# EAGLE library part µPD71055 (library NEC-µPD71055)
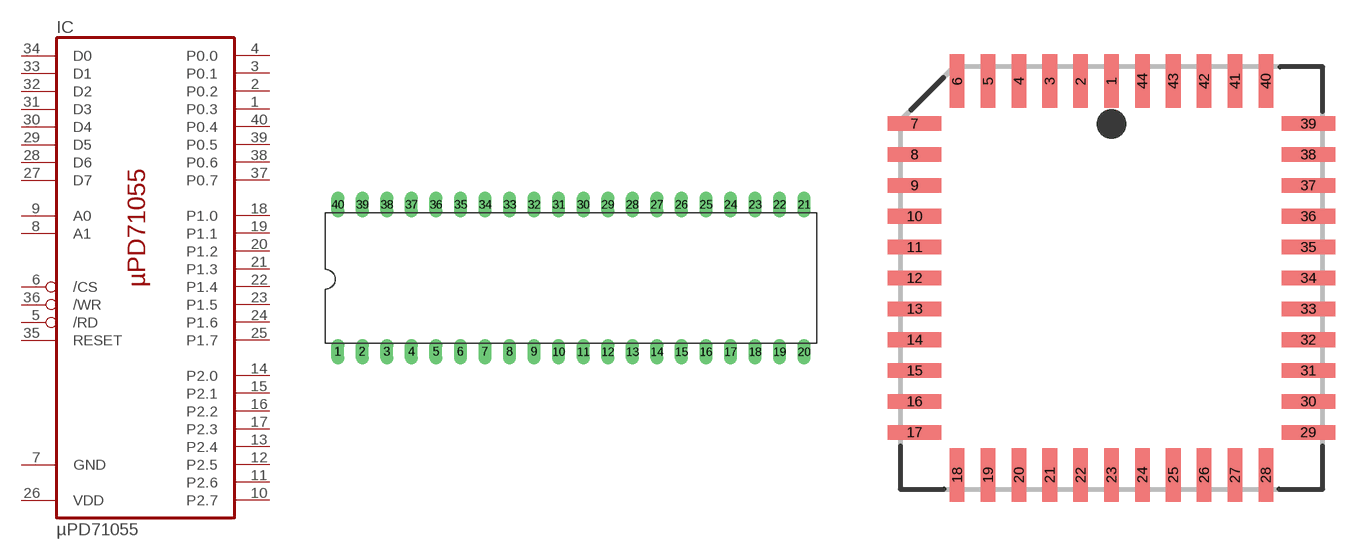
[diagram p0: symbol with the pads of DIL40; footprints DIL40, PLCC44]

Designator prefix IC

## µPD71055C  [DIL40]
1  P0.3
2  P0.2
3  P0.1
4  P0.0
5  /RD  in
6  /CS  in
7  GND  pwr
8  A1  in
9  A0  in
10  P2.7
11  P2.6
12  P2.5
13  P2.4
14  P2.0
15  P2.1
16  P2.2
17  P2.3
18  P1.0
19  P1.1
20  P1.2
21  P1.3
22  P1.4
23  P1.5
24  P1.6
25  P1.7
26  VDD  pwr
27  D7
28  D6
29  D5
30  D4
31  D3
32  D2
33  D1
34  D0
35  RESET  in
36  /WR  in
37  P0.7
38  P0.6
39  P0.5
40  P0.4

## µPD71055L  [PLCC44]
2  P0.3
3  P0.2
4  P0.1
5  P0.0
6  /RD  in
7  /CS  in
8  GND  pwr
9  A1  in
10  A0  in
11  P2.7
13  P2.6
14  P2.5
15  P2.4
16  P2.0
17  P2.1
18  P2.2
19  P2.3
20  P1.0
21  P1.1
22  P1.2
24  P1.3
25  P1.4
26  P1.5
27  P1.6
28  P1.7
29  VDD  pwr
30  D7
31  D6
32  D5
33  D4
35  D3
36  D2
37  D1
38  D0
39  RESET  in
40  /WR  in
41  P0.7
42  P0.6
43  P0.5
44  P0.4

## µPD71055G  [PQFP44]
2  /CS  in
3  GND  pwr
4  A1  in
5  A0  in
6  P2.7
7  P2.6
8  P2.5
9  P2.4
10  P2.0
11  P2.1
12  P2.2
13  P2.3
14  P1.0
15  P1.1
16  P1.2
18  P1.3
19  P1.4
20  P1.5
21  P1.6
22  P1.7
23  VDD  pwr
24  D7
25  D6
26  D5
27  D4
28  D3
29  D2
30  D1
31  D0
32  RESET  in
35  /WR  in
36  P0.7
37  P0.6
38  P0.5
39  P0.4
40  P0.3
41  P0.2
42  P0.1
43  P0.0
44  /RD  in

## Footprint DIL40 (pad centres in mm)
Dual In Line Package
drill 0.813 long: 1 -24.13,-7.62; 2 -21.59,-7.62; 3 -19.05,-7.62; 4 -16.51,-7.62; 5 -13.97,-7.62; 6 -11.43,-7.62; 7 -8.89,-7.62; 8 -6.35,-7.62; 9 -3.81,-7.62; 10 -1.27,-7.62; 11 1.27,-7.62; 12 3.81,-7.62; 13 6.35,-7.62; 14 8.89,-7.62; 15 11.43,-7.62; 16 13.97,-7.62; 17 16.51,-7.62; 18 19.05,-7.62; 19 21.59,-7.62; 20 24.13,-7.62; 21 24.13,7.62; 22 21.59,7.62; 23 19.05,7.62; 24 16.51,7.62; 25 13.97,7.62; 26 11.43,7.62; 27 8.89,7.62; 28 6.35,7.62; 29 3.81,7.62; 30 1.27,7.62; 31 -1.27,7.62; 32 -3.81,7.62; 33 -6.35,7.62; 34 -8.89,7.62; 35 -11.43,7.62; 36 -13.97,7.62; 37 -16.51,7.62; 38 -19.05,7.62; 39 -21.59,7.62; 40 -24.13,7.62

## Footprint PLCC44 (pad centres in mm)
Plastic J-Lead Chip Carrier
smd 0.6 x 2.2: 1 0,8.1; 2 -1.27,8.1; 3 -2.54,8.1; 4 -3.81,8.1; 5 -5.08,8.1; 6 -6.35,8.1; 18 -6.35,-8.1; 19 -5.08,-8.1; 20 -3.81,-8.1; 21 -2.54,-8.1; 22 -1.27,-8.1; 23 0,-8.1; 24 1.27,-8.1; 25 2.54,-8.1; 26 3.81,-8.1; 27 5.08,-8.1; 28 6.35,-8.1; 40 6.35,8.1; 41 5.08,8.1; 42 3.81,8.1; 43 2.54,8.1; 44 1.27,8.1
smd 2.2 x 0.6: 7 -8.1,6.35; 8 -8.1,5.08; 9 -8.1,3.81; 10 -8.1,2.54; 11 -8.1,1.27; 12 -8.1,0; 13 -8.1,-1.27; 14 -8.1,-2.54; 15 -8.1,-3.81; 16 -8.1,-5.08; 17 -8.1,-6.35; 29 8.1,-6.35; 30 8.1,-5.08; 31 8.1,-3.81; 32 8.1,-2.54; 33 8.1,-1.27; 34 8.1,0; 35 8.1,1.27; 36 8.1,2.54; 37 8.1,3.81; 38 8.1,5.08; 39 8.1,6.35

## Footprint PQFP44 (pad centres in mm)
Plastic Quad Flat Package
smd 2 x 0.5: 1 -6.2,4; 2 -6.2,3.2; 3 -6.2,2.4; 4 -6.2,1.6; 5 -6.2,0.8; 6 -6.2,0; 7 -6.2,-0.8; 8 -6.2,-1.6; 9 -6.2,-2.4; 10 -6.2,-3.2; 11 -6.2,-4; 23 6.2,-4; 24 6.2,-3.2; 25 6.2,-2.4; 26 6.2,-1.6; 27 6.2,-0.8; 28 6.2,0; 29 6.2,0.8; 30 6.2,1.6; 31 6.2,2.4; 32 6.2,3.2; 33 6.2,4
smd 0.5 x 2: 12 -4,-6.2; 13 -3.2,-6.2; 14 -2.4,-6.2; 15 -1.6,-6.2; 16 -0.8,-6.2; 17 0,-6.2; 18 0.8,-6.2; 19 1.6,-6.2; 20 2.4,-6.2; 21 3.2,-6.2; 22 4,-6.2; 34 4,6.2; 35 3.2,6.2; 36 2.4,6.2; 37 1.6,6.2; 38 0.8,6.2; 39 0,6.2; 40 -0.8,6.2; 41 -1.6,6.2; 42 -2.4,6.2; 43 -3.2,6.2; 44 -4,6.2